# Altium footprint library 4-C-Tan+SMT.PcbLib: 75 footprints (part 4 of 5)
Each footprint in its own frame and in the unit in brackets; x right, y up, seen from the top. Pads: shape width x height; smd on the part's side, far side on the other; paste and mask are expansions set on the pad; w line width, h text height; cw(c..) or ccw(c..) is an arc to the next point about the centre after c.
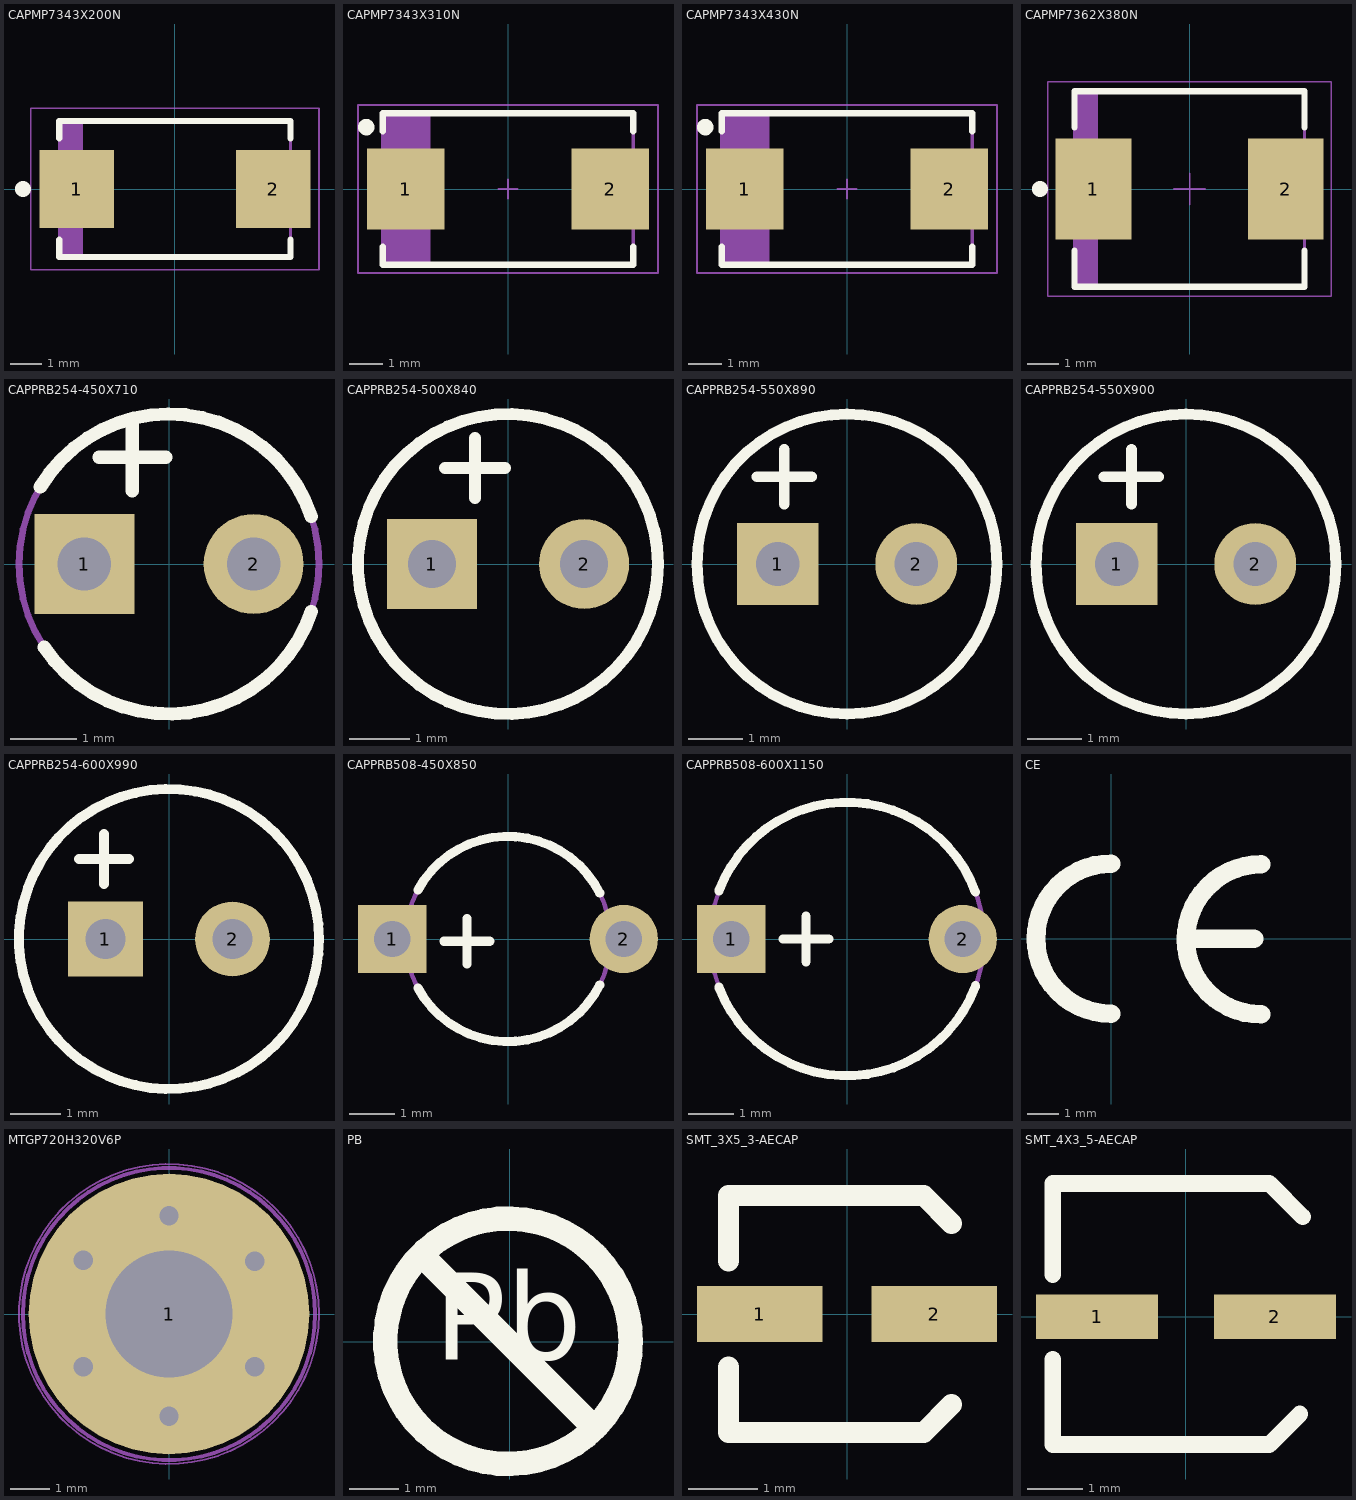
[diagram p3: the footprints below, top view; thin cyan lines are the x and y axes]

## CAPMP7343X200N [mm] "Capacitor, Polarized, Molded  Body 7.3x4.3mm, IPC Medium Density"
height 2
pads (2):
  rect 2.35x2.45 smd: 1(-3.1,0) 2(3.1,0)
Top Overlay:
  circle w0.25: c-4.8,0 r0.125
  lines w0.2: -3.65,-1.6 -3.65,-2.15 3.65,-2.15 3.65,-1.6 ; -3.65,1.6 -3.65,2.15 3.65,2.15 3.65,1.6
Mechanical 14:
  lines w0.1: -3.55,-2.15 -3.55,2.15 ; -3.45,-2.15 -3.45,2.15 ; -3.35,-2.15 -3.35,2.15 ; -3.25,-2.15 -3.25,2.15 ; -3.15,-2.15 -3.15,2.15 ; -3.05,-2.15 -3.05,2.15 ; -2.95,-2.15 -2.95,2.15 ; -3.65,-2.15 -3.65,2.15 ; -3.65,-2.15 -3.65,2.15 ; -3.65,-2.15 3.65,-2.15 3.65,2.15 -3.65,2.15
Mechanical 15:
  lines w0.05: -4.55,-2.55 -4.55,2.55 4.55,2.55 4.55,-2.55 -4.55,-2.55
3D body "p245-235.stp": height 0.02, standoff 0, extent -4.275,-1.225 -1.925,1.225
3D body "p245-235.stp": height 0.02, standoff 0, extent 1.925,-1.225 4.275,1.225
3D body "CAPMP7343X200N.stp": height 2, standoff 0, extent -3.8,-2.3 3.8,2.3

## CAPMP7343X310N [mm] "Capacitor, Polarized, Molded  Body 7.3x4.3mm, IPC Medium Density"
height 3.1
pads (2):
  rect 2.35x2.45 smd: 1(-3.1,0) 2(3.1,0)
Top Overlay:
  circle w0.25: c-4.3,1.875 r0.125
  lines w0.2: -3.8,-1.75 -3.8,-2.3 3.8,-2.3 3.8,-1.75 ; -3.8,1.75 -3.8,2.3 3.8,2.3 3.8,1.75
Mechanical 14:
  lines w0.1: -3.75,-2.3 -3.75,2.3 ; -3.675,-2.3 -3.675,2.3 ; -3.6,-2.3 -3.6,2.3 ; -3.525,-2.3 -3.525,2.3 ; -3.45,-2.3 -3.45,2.3 ; -3.375,-2.3 -3.375,2.3 ; -3.3,-2.3 -3.3,2.3 ; -3.225,-2.3 -3.225,2.3 ; -3.15,-2.3 -3.15,2.3 ; -3.075,-2.3 -3.075,2.3 ; -3,-2.3 -3,2.3 ; -2.925,-2.3 -2.925,2.3 ; -2.85,-2.3 -2.85,2.3 ; -2.775,-2.3 -2.775,2.3 ; -2.7,-2.3 -2.7,2.3 ; -2.625,-2.3 -2.625,2.3 ; -2.55,-2.3 -2.55,2.3 ; -2.475,-2.3 -2.475,2.3 ; -2.4,-2.3 -2.4,2.3 ; -3.8,-2.3 3.8,-2.3 3.8,2.3 -3.8,2.3 -3.8,-2.3
Mechanical 15:
  lines w0.05: -0.3,0 0.3,0 ; 0,-0.3 0,0.3 ; -4.55,-2.55 4.55,-2.55 4.55,2.55 -4.55,2.55 -4.55,-2.55
3D body "CAPMP7343X310N.stp": height 3.1, standoff 0, extent -3.8,-2.3 3.8,2.3
3D body "p245-235.stp": height 0.02, standoff 0, extent 1.925,-1.225 4.275,1.225
3D body "p245-235.stp": height 0.02, standoff 0, extent -4.275,-1.225 -1.925,1.225

## CAPMP7343X430N [mm] "Capacitor, Polarized, Molded  Body 7.3x4.3mm, IPC Medium Density"
height 4.3
pads (2):
  rect 2.35x2.45 smd: 1(-3.1,0) 2(3.1,0)
Top Overlay:
  circle w0.25: c-4.3,1.875 r0.125
  lines w0.2: -3.8,-1.75 -3.8,-2.3 3.8,-2.3 3.8,-1.75 ; -3.8,1.75 -3.8,2.3 3.8,2.3 3.8,1.75
Mechanical 14:
  lines w0.1: -3.7,-2.3 -3.7,2.3 ; -3.625,-2.3 -3.625,2.3 ; -3.55,-2.3 -3.55,2.3 ; -3.475,-2.3 -3.475,2.3 ; -3.4,-2.3 -3.4,2.3 ; -3.325,-2.3 -3.325,2.3 ; -3.25,-2.3 -3.25,2.3 ; -3.175,-2.3 -3.175,2.3 ; -3.1,-2.3 -3.1,2.3 ; -3.025,-2.3 -3.025,2.3 ; -2.95,-2.3 -2.95,2.3 ; -2.875,-2.3 -2.875,2.3 ; -2.8,-2.3 -2.8,2.3 ; -2.725,-2.3 -2.725,2.3 ; -2.65,-2.3 -2.65,2.3 ; -2.575,-2.3 -2.575,2.3 ; -2.5,-2.3 -2.5,2.3 ; -2.4,-2.3 -2.4,2.3 ; -3.8,-2.3 3.8,-2.3 3.8,2.3 -3.8,2.3 -3.8,-2.3
Mechanical 15:
  lines w0.05: -0.3,0 0.3,0 ; 0,-0.3 0,0.3 ; -4.55,-2.55 4.55,-2.55 4.55,2.55 -4.55,2.55 -4.55,-2.55
3D body "CAPMP7343X430N.stp": height 4.3, standoff 0, extent -3.8,-2.3 3.8,2.3
3D body "p245-235.stp": height 0.02, standoff 0, extent 1.925,-1.225 4.275,1.225
3D body "p245-235.stp": height 0.02, standoff 0, extent -4.275,-1.225 -1.925,1.225

## CAPMP7362X380N [mm] "Molded Capacitor, 2-Leads, Body 7.3x6.2mm, IPC Medium Density"
height 3.8
pads (2):
  rect 2.4x3.2 smd: 1(-3.05,0) 2(3.05,0)
Top Overlay:
  circle w0.25: c-4.75,0 r0.125
  lines w0.2: -3.65,-1.95 -3.65,-3.1 3.65,-3.1 3.65,-1.95 ; -3.65,1.95 -3.65,3.1 3.65,3.1 3.65,1.95
Mechanical 14:
  lines w0.1: -3.55,-3.075 -3.55,3.075 ; -3.45,-3.075 -3.45,3.075 ; -3.35,-3.075 -3.35,3.075 ; -3.25,-3.075 -3.25,3.075 ; -3.15,-3.075 -3.15,3.075 ; -3.05,-3.075 -3.05,3.075 ; -2.95,-3.075 -2.95,3.075 ; -3.65,-3.075 -3.65,3.075 ; -3.65,-3.075 -3.65,3.075 ; -3.65,-3.075 3.65,-3.075 3.65,3.075 -3.65,3.075
Mechanical 15:
  lines w0.05: -0.5,0 0.5,0 ; 0,-0.5 0,0.5 ; -4.5,-3.4 -4.5,3.4 4.5,3.4 4.5,-3.4 -4.5,-3.4
3D body "CAPMP7362X380N.stp": height 3.8, standoff 0, extent -3.75,-3.15 3.75,3.15
3D body "p320-240.stp": height 0.02, standoff 0, extent -4.3,-1.6 -1.9,1.6
3D body "p320-240.stp": height 0.02, standoff 0, extent 1.9,-1.6 4.3,1.6

## CAPPRB254-450X710 [mm] "Capacitor, Polarized Radial Bead, Pin spacing 2.54mm - Body Diameter 4.5mm X Body Height 7.1mm"
height 4.5
pads (2):
  rect 1.5x1.5 hole 0.8: 1(-1.27,0)
  round 1.5 hole 0.8: 2(1.27,0)
Top Overlay:
  lines w0.2: -1.931,1.154 cw(c0,0) 2.135,0.712 ; -1.872,-1.248 ccw(c0,0) 2.135,-0.712 ; -1.05,1.6 -0.05,1.6 ; -0.55,1.1 -0.55,2.1
Mechanical 14:
  circle w0.1: c0,0 r2.25
  lines w0.1: -1.05,1.6 -0.05,1.6 ; -0.55,1.1 -0.55,2.1
3D body "CAPPRB254-450X710.stp": height 7.09, standoff -3.6, extent -2.249,-2.249 2.249,2.249
3D body "v150-075.stp": height 0.03, standoff -1.65, extent 0.55,-0.75 2.05,0.75
3D body "v150-075.stp": height 0.03, standoff -1.65, extent -2.05,-0.75 -0.55,0.75

## CAPPRB254-500X840 [mm] "Capacitor, Polarized Radial Bead, Pin spacing 2.54mm - Body Diameter 5.5mm X Body Height 8.4mm"
height 8.4
pads (2):
  rect 1.5x1.5 hole 0.8: 1(-1.27,0)
  round 1.5 hole 0.8: 2(1.27,0)
Top Overlay:
  circle w0.2: c0,0 r2.5
  lines w0.2: -1.05,1.6 -0.05,1.6 ; -0.55,1.1 -0.55,2.1
Mechanical 14:
  circle w0.1: c0,0 r2.5
  lines w0.1: -1.05,1.6 -0.05,1.6 ; -0.55,1.1 -0.55,2.1
3D body "v150-075.stp": height 0.03, standoff -1.65, extent 0.58,-0.75 2.08,0.75
3D body "v150-075.stp": height 0.03, standoff -1.65, extent -2.02,-0.75 -0.52,0.75
3D body "CAPPRB254-500X840.stp": height 8.4, standoff -3.6, extent -2.5,-2.5 2.5,2.5

## CAPPRB254-550X890 [mm] "Capacitor, Polarized Radial Bead, Pin spacing 2.54mm - Body Diameter 5.5mm X Body Height 8.9mm"
height 8.9
pads (2):
  rect 1.5x1.5 hole 0.8: 1(-1.27,0)
  round 1.5 hole 0.8: 2(1.27,0)
Top Overlay:
  circle w0.2: c0,0 r2.75
  lines w0.2: -1.65,1.6 -0.65,1.6 ; -1.15,1.1 -1.15,2.1
Mechanical 14:
  circle w0.1: c0,0 r2.75
  lines w0.1: -1.65,1.6 -0.65,1.6 ; -1.15,1.1 -1.15,2.1
3D body "CAPPRB254-550X890.stp": height 8.9, standoff -3.6, extent -2.75,-2.75 2.75,2.75
3D body "v150-075.stp": height 0.03, standoff -1.65, extent 0.58,-0.75 2.08,0.75
3D body "v150-075.stp": height 0.03, standoff -1.65, extent -2.02,-0.75 -0.52,0.75

## CAPPRB254-550X900 [mm] "Capacitor, Polarized Radial Bead, Pin spacing 2.54mm - Body Diameter 5.5mm X Body Height 9mm"
height 9
pads (2):
  rect 1.5x1.5 hole 0.8: 1(-1.27,0)
  round 1.5 hole 0.8: 2(1.27,0)
Top Overlay:
  circle w0.2: c0,0 r2.75
  lines w0.2: -1.5,1.6 -0.5,1.6 ; -1,1.1 -1,2.1
Mechanical 14:
  circle w0.1: c0,0 r2.75
  lines w0.1: -1.5,1.6 -0.5,1.6 ; -1,1.1 -1,2.1
3D body "CAPPRB254-550X900.stp": height 9, standoff -3.6, extent -2.74,-2.76 2.76,2.74
3D body "v150-075.stp": height 0.03, standoff -1.65, extent 0.58,-0.75 2.08,0.75
3D body "v150-075.stp": height 0.03, standoff -1.65, extent -2.02,-0.75 -0.52,0.75

## CAPPRB254-600X990 [mm] "Capacitor, Polarized Radial Bead, Pin spacing 2.54mm - Body Diameter 6.0mm X Body Height 9.9mm"
height 9.9
pads (2):
  rect 1.5x1.5 hole 0.8: 1(-1.27,0)
  round 1.5 hole 0.8: 2(1.27,0)
Top Overlay:
  circle w0.2: c0,0 r3
  lines w0.2: -1.8,1.6 -0.8,1.6 ; -1.3,1.1 -1.3,2.1
Mechanical 14:
  circle w0.1: c0,0 r3
  lines w0.1: -1.8,1.6 -0.8,1.6 ; -1.3,1.1 -1.3,2.1
3D body "CAPPRB254-600X990.stp": height 9.9, standoff -3.6, extent -3,-3 3,3
3D body "v150-075.stp": height 0.03, standoff -1.65, extent 0.58,-0.75 2.08,0.75
3D body "v150-075.stp": height 0.03, standoff -1.65, extent -2.02,-0.75 -0.52,0.75

## CAPPRB508-450X850 [mm] "Capacitor, Polarized Radial Bead, Pin spacing 5.08mm - Body Diameter 4.5mm X Body Height 8.5mm"
height 8.5
pads (2):
  rect 1.5x1.5 hole 0.8: 1(-2.54,0)
  round 1.5 hole 0.8: 2(2.54,0)
Top Overlay:
  lines w0.2: -1.976,-1.076 ccw(c0,0) 2.012,-1.006 ; -1.976,1.076 cw(c0,0) 2.012,1.006 ; -1.4,-0.05 -0.4,-0.05 ; -0.9,-0.55 -0.9,0.45
Mechanical 14:
  circle w0.1: c0,0 r2.25
  lines w0.1: -1.4,-0.05 -0.4,-0.05 ; -0.9,-0.55 -0.9,0.45
3D body "v150-075.stp": height 0.03, standoff -1.65, extent -3.25,-0.75 -1.75,0.75
3D body "v150-075.stp": height 0.03, standoff -1.65, extent 1.79,-0.75 3.29,0.75
3D body "CAPPRB508-450X850.stp": height 8.98, standoff -2.91, extent -2.79,-2.249 2.79,2.249

## CAPPRB508-600X1150 [mm] "Capacitor, Polarized Radial Bead, Pin spacing 5.08mm - Body Diameter 6mm X Body Height 11.5mm"
height 11.5
pads (2):
  rect 1.5x1.5 hole 0.8: 1(-2.54,0)
  round 1.5 hole 0.8: 2(2.54,0)
Top Overlay:
  lines w0.2: -2.809,-1.053 ccw(c0,0) 2.819,-1.026 ; -2.809,1.053 cw(c0,0) 2.817,1.031 ; -1.4,0 -0.4,0 ; -0.9,-0.5 -0.9,0.5
Mechanical 14:
  circle w0.1: c0,0 r3
  lines w0.1: -1.4,0 -0.4,0 ; -0.9,-0.5 -0.9,0.5
3D body "v150-075.stp": height 0.03, standoff -1.65, extent -3.29,-0.75 -1.79,0.75
3D body "v150-075.stp": height 0.03, standoff -1.65, extent 1.79,-0.75 3.29,0.75
3D body "CAPPRB508-600X1150.stp": height 11.79, standoff -2.91, extent -3,-3 3,3

## CE [mm]
Top Overlay:
  lines w0.6: 0,-2.413 cw(c0,0) 0,2.413 ; 2.53,0 4.6,0 ; 4.826,-2.438 cw(c4.826,-0.025) 4.826,2.388
3D body "ce.stp": height 0.02, standoff 0, extent -2.725,-2.725 4.82,2.725

## MTGP720H320V6P [mm]
pads (1):
  round 7.2 hole 3.25: 1(0,0)
via 2.2,-1.35 diameter 1 hole 0.5
via 0,-2.625 diameter 1 hole 0.5
via 2.2,1.35 diameter 1 hole 0.5
via 0,2.525 diameter 1 hole 0.5
via -2.2,1.375 diameter 1 hole 0.5
via -2.2,-1.35 diameter 1 hole 0.5
Mechanical 8:
  circle w0.1: c0,0 r3.75
  circle w0.1: c0,0 r2.6
  lines w0.1: -2.657,1.625 -2.224,1.375 ; -2.632,-1.6 -2.199,-1.35 ; -2.474,0.942 -2.224,1.375 ; -2.449,-0.917 -2.199,-1.35 ; -1.974,1.808 -2.224,1.375 ; -1.949,-1.783 -2.199,-1.35 ; -1.791,1.125 -2.224,1.375 ; -1.766,-1.1 -2.199,-1.35 ; -0.5,-2.625 0,-2.625 ; -0.5,0 0,0 ; -0.5,2.525 0,2.525 ; 0,-3.125 0,-2.625 ; 0,-2.125 0,-2.625 ; 0,-0.5 0,0 ; 0,0.5 0,0 ; 0,2.025 0,2.525 ; 0,3.025 0,2.525 ; 0.5,-2.625 0,-2.625 ; 0.5,0 0,0 ; 0.5,2.525 0,2.525 ; 1.766,-1.1 2.199,-1.35 ; 1.766,1.1 2.199,1.35 ; 1.949,-1.783 2.199,-1.35 ; 1.949,1.783 2.199,1.35 ; 2.449,-0.917 2.199,-1.35 ; 2.449,0.917 2.199,1.35 ; 2.632,-1.6 2.199,-1.35 ; 2.632,1.6 2.199,1.35
Mechanical 14:
  circle w0.1: c0,0 r3.75
Mechanical 15:
  circle w0.05: c0,0 r3.85
3D body "mtgp720h320v6p.stp": height 0.1, standoff -1.75, extent -3.627,-3.627 3.628,3.628

## PB [mm]
Top Overlay:
  circle w0.5: c-0.031,0.013 r2.5
  lines w0.5: -1.737,1.719 1.675,-1.693
  text "Pb" at -1.536,-0.948 h3.05
3D body "pb.stp": height 0.02, standoff 0, extent -2.725,-2.725 2.725,2.725

## SMT_3X5_3-AECAP [mm]
pads (2):
  rect 1.8x0.8 smd: 1(-1.25,0) 2(1.25,0)
Top Overlay:
  lines w0.3: -1.7,-0.762 -1.7,-1.7 1.1,-1.7 1.5,-1.3 ; -1.7,0.762 -1.7,1.7 1.1,1.7 1.5,1.3
3D body "p180-080.stp": height 0.02, standoff 0, extent 0.4,-0.4 2.2,0.4
3D body "p180-080.stp": height 0.02, standoff 0, extent -2.2,-0.4 -0.4,0.4
3D body "3d_3x5_3-cap.stp": height 5.3, standoff 0, extent -1.9,-1.5 1.9,1.5
3D body "3d_3x5_3-cap.stp": height 5.31, standoff 0, extent 1.4,-1.6 5.2,1.4
3D body "3d_3x5_3-cap.stp": height 5.31, standoff 0, extent 1.5,-1.6 5.3,1.4
3D body "3d_3x5_3-cap.stp": height 5.31, standoff 0, extent -1.8,-1.6 2,1.4

## SMT_4X3_5-AECAP [mm]
pads (2):
  rect 2.2x0.8 smd: 1(-1.6,0) 2(1.6,0)
Top Overlay:
  lines w0.3: -2.4,-0.762 -2.4,-2.3 1.5,-2.3 2.05,-1.75 ; -2.4,0.762 -2.4,2.4 1.5,2.4 2.1,1.8
3D body "3d_4x5_3-aecap.stp": height 5.81, standoff 0, extent -2.4,-2.1 2.4,2.2
3D body "p180-080.stp": height 0.02, standoff 0, extent 0.9,-0.4 2.7,0.4
3D body "p180-080.stp": height 0.02, standoff 0, extent -2.7,-0.4 -0.9,0.4